# Altium schematic symbol library MP6570GR-xxxx-P.SchLib: 1 symbol
Pins are listed as number, name and electrical type; pins without a type are passive.

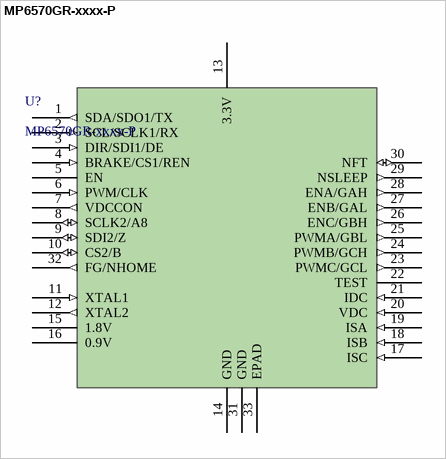
[diagram p0: symbol MP6570GR-xxxx-P]

## MP6570GR-xxxx-P
designator U?
3-Phase BLDC Controller with aHigh-Accuracy Angular Sensor; Manufacturer_Name: Monolithic Power Systems; Copyright: Copyright (C) 2026 Ultra Librarian. All rights reserved.; Manufacturer_Part_Number: MP6570GR-xxxx-P; RefDes: RefDes; Type: Type
footprint QFN-32_MP6570_MNP
pins: 1 SDA/SDO1/TX (out), 2 SCL/SCLK1/RX (in), 3 DIR/SDI1/DE (in), 4 BRAKE/CS1/REN (in), 5 EN, 6 PWM/CLK (in), 7 VDCCON (out), 8 SCLK2/A8 (io), 9 SDI2/Z (io), 10 CS2/B (io), 11 XTAL1 (in), 12 XTAL2 (out), 13 3.3V (power), 14 GND (power), 15 1.8V (power), 16 0.9V (power), 17 ISC (in), 18 ISB (in), 19 ISA (in), 20 VDC (in), 21 IDC (in), 22 TEST, 23 PWMC/GCL (out), 24 PWMB/GCH (out), 25 PWMA/GBL (out), 26 ENC/GBH (out), 27 ENB/GAL (out), 28 ENA/GAH (out), 29 NSLEEP (out), 30 NFT (io), 31 GND (power), 32 FG/NHOME (out), 33 EPAD (power)